# Altium footprint library TI Power Management Step-Down Regulator.PcbLib: 43 footprints (part 2 of 3)
Each footprint in its own frame and in the unit in brackets; x right, y up, seen from the top. Pads: shape width x height; smd on the part's side, far side on the other; paste and mask are expansions set on the pad; w line width, h text height; cw(c..) or ccw(c..) is an arc to the next point about the centre after c.
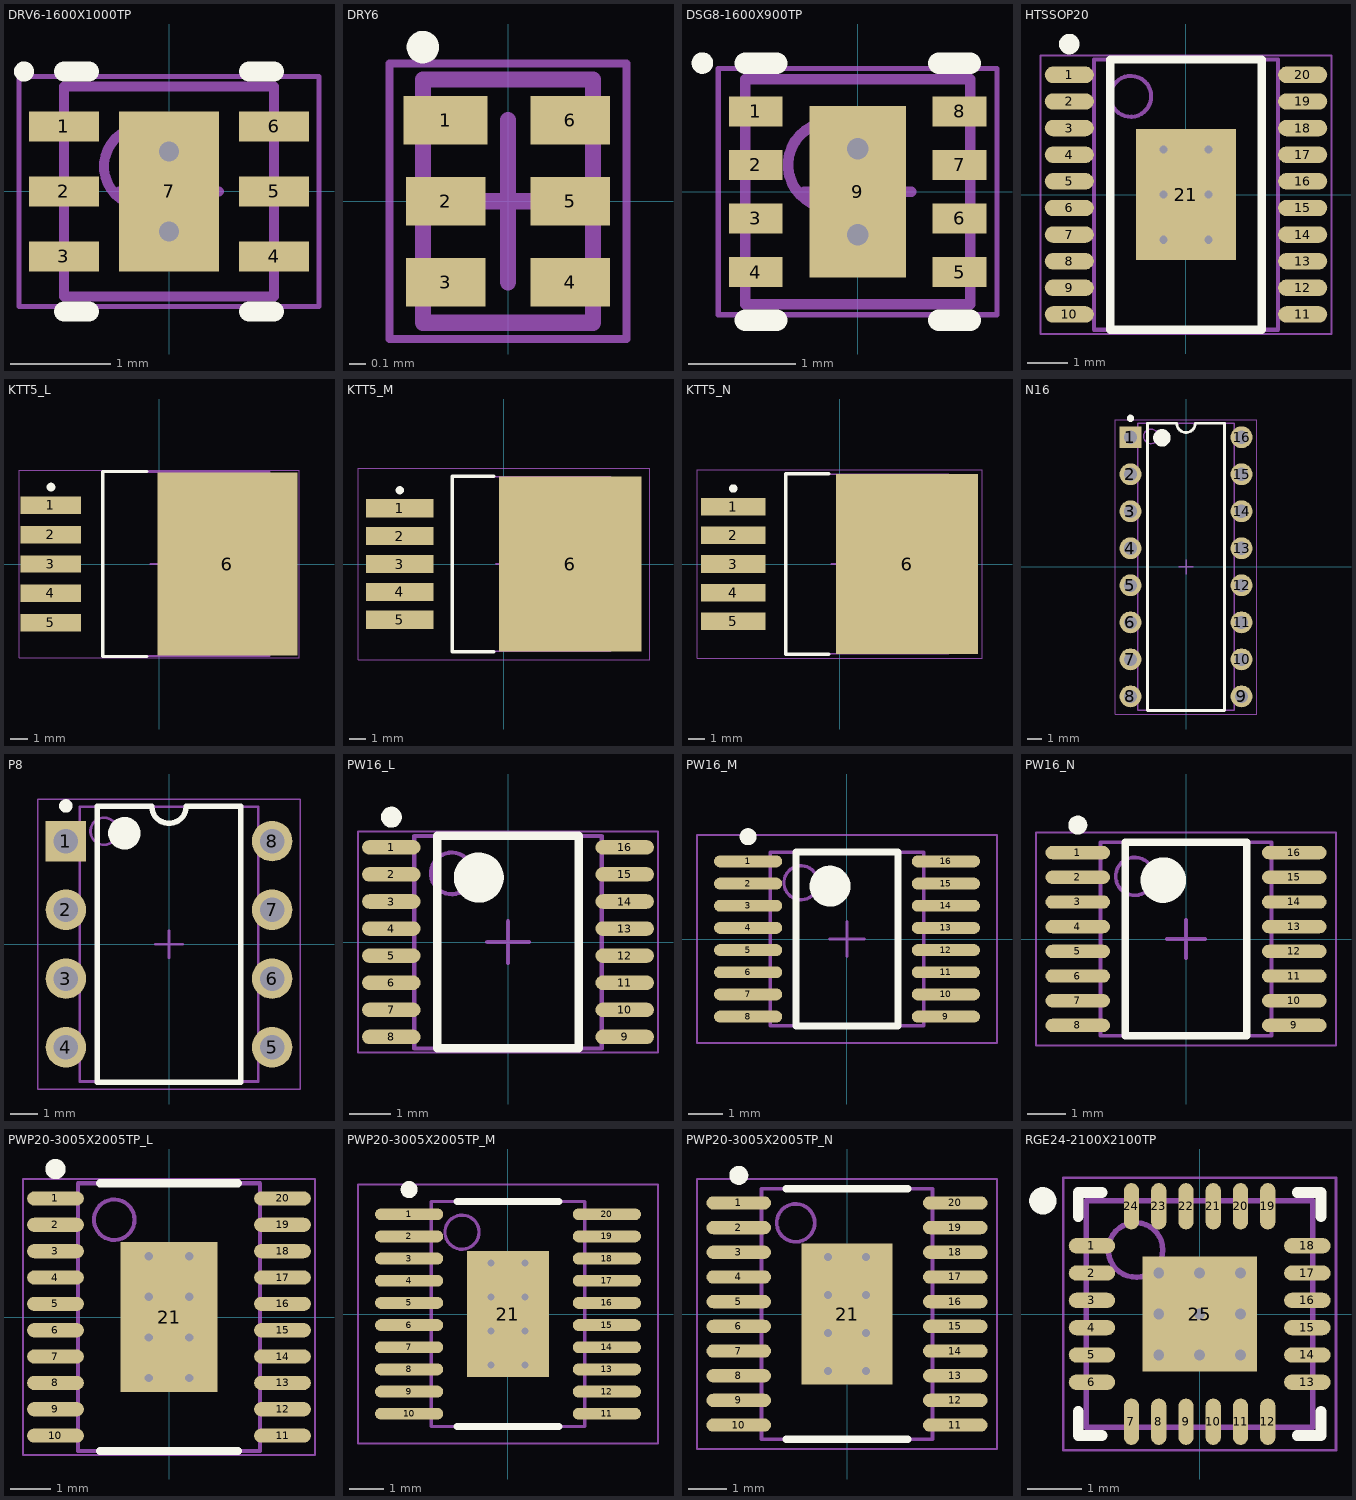
[diagram p1: the footprints below, top view; thin cyan lines are the x and y axes]

## DRV6-1600X1000TP [mm] "SON, 6-Leads, Body 2x2mm, Pitch 0.65mm, Thermal Pad 1.6x1mm, TI Recommended"
height 0.8
pads (7):
  rect 0.7x0.3 smd paste-0.025 mask+0.07: 1(-1.05,0.65) 2(-1.05,0) 3(-1.05,-0.65) 4(1.05,-0.65) 5(1.05,0) 6(1.05,0.65)
  rect 1x1.6 smd paste-0.5 mask+0.07: 7(0,0)
via 0,-0.4 diameter 0.5 hole 0.2
via 0,0.4 diameter 0.5 hole 0.2
Top Overlay:
  circle w0.1: c-1.45,1.2 r0.05
  lines w0.2: -1.05,-1.2 -0.8,-1.2 ; -1.05,1.2 -0.8,1.2 ; 0.8,-1.2 1.05,-1.2 ; 0.8,1.2 1.05,1.2
Top Paste:
  rectangle: -0.4,-0.7 0.4,0.7
Mechanical 13:
  circle w0.1: c-0.25,0.25 r0.4
  lines w0.1: -1.05,-1.05 1.05,-1.05 1.05,1.05 -1.05,1.05 -1.05,-1.05
Mechanical 15:
  lines w0.05: -1.5,-1.15 1.5,-1.15 1.5,1.15 -1.5,1.15 -1.5,-1.15
  lines w0.1: -0.5,0 0.5,0 ; 0,-0.5 0,0.5
3D body "SON6_2x2.step": height 0.75, standoff 0, extent -1.001,-1 1.001,1

## DRY6 [mm] "PSON, 6-Leads, Body 1x1.45mm, Pitch 0.5mm, TI Recommended"
height 0.6
pads (6):
  rect 0.52x0.3 smd paste+0 mask+0.05: 1(-0.385,0.5)
  rect 0.49x0.3 smd paste+0 mask+0.05: 2(-0.385,0) 3(-0.385,-0.5) 4(0.385,-0.5) 5(0.385,0) 6(0.385,0.5)
Top Overlay:
  circle w0.1: c-0.525,0.95 r0.05
Mechanical 13:
  lines w0.1: -0.525,-0.75 0.525,-0.75 0.525,0.75 -0.525,0.75 -0.525,-0.75
Mechanical 15:
  lines w0.05: -0.73,-0.85 0.73,-0.85 0.73,0.85 -0.73,0.85 -0.73,-0.85
  lines w0.1: -0.5,0 0.5,0 ; 0,-0.5 0,0.5
3D body "SON6_1.step": height 0.64, standoff -0.01, extent -0.566,-0.75 0.584,0.75

## DSG8-1600X900TP [mm] "SON, 8-Leads, Body 2x2mm, Pitch 0.5mm, Thermal Pad 1.6x0.9mm, TI Recommended"
height 0.8
pads (9):
  rect 0.5x0.28 smd paste-0.14 mask+0.07: 1(-0.95,0.75) 2(-0.95,0.25) 3(-0.95,-0.25) 4(-0.95,-0.75) 5(0.95,-0.75) 6(0.95,-0.25) 7(0.95,0.25) 8(0.95,0.75)
  rect 0.9x1.6 smd paste-0.45 mask+0.07: 9(0,0)
via 0,0.4 diameter 0.5 hole 0.2
via 0,-0.4 diameter 0.5 hole 0.2
Top Overlay:
  circle w0.1: c-1.45,1.2 r0.05
  lines w0.2: -1.05,-1.2 -0.755,-1.2 ; -1.05,1.2 -0.755,1.2 ; 0.755,-1.2 1.05,-1.2 ; 0.755,1.2 1.05,1.2
Top Paste:
  rectangle: -1.2,0.125 -0.7,0.375
  rectangle: -0.35,-0.65 0.35,0.65
  rectangle: -1.2,0.625 -0.7,0.875
  rectangle: -1.2,-0.375 -0.7,-0.125
  rectangle: -1.2,-0.875 -0.7,-0.625
  rectangle: 0.7,-0.875 1.2,-0.625
  rectangle: 0.7,-0.375 1.2,-0.125
  rectangle: 0.7,0.125 1.2,0.375
  rectangle: 0.7,0.625 1.2,0.875
Mechanical 13:
  circle w0.1: c-0.25,0.25 r0.4
  lines w0.1: -1.05,-1.05 1.05,-1.05 1.05,1.05 -1.05,1.05 -1.05,-1.05
Mechanical 15:
  lines w0.05: -1.3,-1.15 1.3,-1.15 1.3,1.15 -1.3,1.15 -1.3,-1.15
  lines w0.1: -0.5,0 0.5,0 ; 0,-0.5 0,0.5
3D body "SON8-2x2mm-1.step": height 0.81, standoff 0.01, extent -1,-1 1,1

## HTSSOP20 [mm] "TSOP, 20-Leads, Body 6.50x4.40mm, Pitch 0.65mm, Thermal Pad 3.20x2.45mm, IPC High Density"
height 1.2
pads (21):
  oval 1.2x0.4 smd: 1(-2.85,2.925) 2(-2.85,2.275) 3(-2.85,1.625) 4(-2.85,0.975) 5(-2.85,0.325) 6(-2.85,-0.325) 7(-2.85,-0.975) 8(-2.85,-1.625) 9(-2.85,-2.275) 10(-2.85,-2.925) 11(2.85,-2.925) 12(2.85,-2.275) 13(2.85,-1.625) 14(2.85,-0.975) 15(2.85,-0.325) 16(2.85,0.325) 17(2.85,0.975) 18(2.85,1.625) 19(2.85,2.275) 20(2.85,2.925)
  rect 2.45x3.2 smd: 21(0,0)
via 0.55,-1.1 diameter 0.5 hole 0.2
via -0.55,-1.1 diameter 0.5 hole 0.2
via 0.55,0 diameter 0.5 hole 0.2
via -0.55,0 diameter 0.5 hole 0.2
via 0.55,1.1 diameter 0.5 hole 0.2
via -0.55,1.1 diameter 0.5 hole 0.2
Top Overlay:
  circle w0.25: c-2.85,3.675 r0.125
  lines w0.2: -1.85,-3.3 1.85,-3.3 1.85,3.3 -1.85,3.3 -1.85,-3.3
Mechanical 13:
  circle w0.1: c-1.35,2.4 r0.5
  lines w0.1: -2.25,-3.3 2.25,-3.3 2.25,3.3 -2.25,3.3 -2.25,-3.3
Mechanical 15:
  lines w0.05: -3.55,-3.4 3.55,-3.4 3.55,3.4 -3.55,3.4 -3.55,-3.4
  lines w0.1: -0.5,0 0.5,0 ; 0,-0.5 0,0.5
3D body "HTSSOP20.step": height 1.2, standoff 0, extent -3.2,-3.3 3.2,3.3

## KTT5_L [mm] "D2-PAK, 6-Leads, Body 8.9x10.2mm, Pitch 1.7mm, Lead Span 15.2mm, IPC High Density"
height 4.83
pads (6):
  rect 3.5x1 smd: 1(-6.25,3.4) 2(-6.25,1.7) 3(-6.25,0) 4(-6.25,-1.7) 5(-6.25,-3.4)
  rect 8.1x10.6 smd: 6(3.95,0)
Top Overlay:
  circle w0.25: c-6.25,4.45 r0.125
  lines w0.2: -0.7,-5.35 -3.25,-5.35 -3.25,5.35 -0.7,5.35
Mechanical 13:
  lines w0.1: -3.25,-5.325 6.4,-5.325 6.4,5.325 -3.25,5.325 -3.25,-5.325
Mechanical 15:
  lines w0.05: -8.1,-5.425 8.1,-5.425 8.1,5.425 -8.1,5.425 -8.1,-5.425
  lines w0.1: -0.5,0 0.5,0 ; 0,-0.5 0,0.5
3D body "D2PACK-5-TO263-5.step": height 4.41, standoff -0.14, extent -7.546,-5.15 7.682,5.15

## KTT5_M [mm] "D2-PAK, 6-Leads, Body 8.9x10.2mm, Pitch 1.7mm, Lead Span 15.2mm, IPC Low Density"
height 4.83
pads (6):
  rect 4.1x1.1 smd: 1(-6.35,3.4) 2(-6.35,1.7) 3(-6.35,0) 4(-6.35,-1.7) 5(-6.35,-3.4)
  rect 8.7x10.7 smd: 6(4.05,0)
Top Overlay:
  circle w0.25: c-6.35,4.5 r0.125
  lines w0.2: -0.6,-5.35 -3.15,-5.35 -3.15,5.35 -0.6,5.35
Mechanical 13:
  lines w0.1: -3.15,-5.325 6.5,-5.325 6.5,5.325 -3.15,5.325 -3.15,-5.325
Mechanical 15:
  lines w0.05: -8.9,-5.85 8.9,-5.85 8.9,5.85 -8.9,5.85 -8.9,-5.85
  lines w0.1: -0.5,0 0.5,0 ; 0,-0.5 0,0.5
3D body "D2PACK-5-TO263-5.step": height 4.41, standoff -0.14, extent -7.8,-5.15 7.428,5.15

## KTT5_N [mm] "D2-PAK, 6-Leads, Body 8.9x10.2mm, Pitch 1.7mm, Lead Span 15.2mm, IPC Medium Density"
height 4.83
pads (6):
  rect 3.8x1.05 smd: 1(-6.3,3.4) 2(-6.3,1.7) 3(-6.3,0) 4(-6.3,-1.7) 5(-6.3,-3.4)
  rect 8.4x10.65 smd: 6(4,0)
Top Overlay:
  circle w0.25: c-6.3,4.475 r0.125
  lines w0.2: -0.65,-5.35 -3.2,-5.35 -3.2,5.35 -0.65,5.35
Mechanical 13:
  lines w0.1: -3.2,-5.325 -3.2,5.325 6.45,5.325 6.45,-5.325 -3.2,-5.325
Mechanical 15:
  lines w0.05: -8.45,-5.575 -8.45,5.575 8.45,5.575 8.45,-5.575 -8.45,-5.575
  lines w0.1: -0.5,0 0.5,0 ; 0,-0.5 0,0.5
3D body "D2PACK-5-TO263-5.step": height 4.41, standoff -0.14, extent -7.8,-5.15 7.428,5.15

## N16 [mm] "DIP, 16-Leads, Row Spacing 7.62mm, Pitch 2.54mm, Body 19.3x6.4mm"
height 5.08
pads (16):
  rect 1.5x1.5 hole 0.9: 1(-3.81,8.89)
  round 1.5 hole 0.9: 2(-3.81,6.35) 3(-3.81,3.81) 4(-3.81,1.27) 5(-3.81,-1.27) 6(-3.81,-3.81) 7(-3.81,-6.35) 8(-3.81,-8.89) 9(3.81,-8.89) 10(3.81,-6.35) 11(3.81,-3.81) 12(3.81,-1.27) 13(3.81,1.27) 14(3.81,3.81) 15(3.81,6.35) 16(3.81,8.89)
Top Overlay:
  circle w0.6: c-1.65,8.85 r0.3
  circle w0.25: c-3.81,10.19 r0.125
  lines w0.2: -2.65,-9.85 2.65,-9.85 2.65,9.85 0.635,9.85 cw(c0,9.85) -0.635,9.85 -2.65,9.85 -2.65,-9.85
Mechanical 13:
  circle w0.1: c-2.4,8.95 r0.5
  lines w0.1: -3.3,-9.85 3.3,-9.85 3.3,9.85 -3.3,9.85 -3.3,-9.85
Mechanical 15:
  lines w0.05: -4.85,-10.1 4.85,-10.1 4.85,10.1 -4.85,10.1 -4.85,-10.1
  lines w0.1: -0.5,0 0.5,0 ; 0,-0.5 0,0.5
3D body "DIP16.step": height 5.1, standoff -3.3, extent -3.935,-9.746 3.935,10.254

## P8 [mm] "DIP, 8-Leads, Row Spacing 7.62mm, Pitch 2.54mm, Body 9.6x6.4mm"
height 5.08
pads (8):
  rect 1.5x1.5 hole 0.9: 1(-3.81,3.81)
  round 1.5 hole 0.9: 2(-3.81,1.27) 3(-3.81,-1.27) 4(-3.81,-3.81) 5(3.81,-3.81) 6(3.81,-1.27) 7(3.81,1.27) 8(3.81,3.81)
Top Overlay:
  circle w0.25: c-3.81,5.11 r0.125
  circle w0.6: c-1.65,4.1 r0.3
  lines w0.2: -2.65,-5.1 -2.65,5.1 -0.635,5.1 ccw(c0,5.1) 0.635,5.1 2.65,5.1 2.65,-5.1 -2.65,-5.1
Mechanical 13:
  circle w0.1: c-2.4,4.175 r0.5
  lines w0.1: -3.3,-5.075 -3.3,5.075 3.3,5.075 3.3,-5.075 -3.3,-5.075
Mechanical 15:
  lines w0.05: -4.85,-5.35 -4.85,5.35 4.85,5.35 4.85,-5.35 -4.85,-5.35
  lines w0.1: -0.5,0 0.5,0 ; 0,-0.5 0,0.5
3D body "DIP8.step": height 4.8, standoff -3.3, extent -3.935,-4.9 3.935,4.9

## PW16_L [mm] "TSOP, 16-Leads, Body 5x4.4mm, Pitch 0.65mm, IPC High Density"
height 1.2
pads (16):
  oval 1.4x0.35 smd: 1(-2.8,2.275) 2(-2.8,1.625) 3(-2.8,0.975) 4(-2.8,0.325) 5(-2.8,-0.325) 6(-2.8,-0.975) 7(-2.8,-1.625) 8(-2.8,-2.275) 9(2.8,-2.275) 10(2.8,-1.625) 11(2.8,-0.975) 12(2.8,-0.325) 13(2.8,0.325) 14(2.8,0.975) 15(2.8,1.625) 16(2.8,2.275)
Top Overlay:
  circle w0.25: c-2.8,3 r0.125
  circle w0.6: c-0.7,1.55 r0.3
  lines w0.2: -1.7,-2.55 -1.7,2.55 1.7,2.55 1.7,-2.55 -1.7,-2.55
Mechanical 13:
  circle w0.1: c-1.35,1.65 r0.5
  lines w0.1: -2.25,-2.55 -2.25,2.55 2.25,2.55 2.25,-2.55 -2.25,-2.55
Mechanical 15:
  lines w0.05: -3.6,-2.65 -3.6,2.65 3.6,2.65 3.6,-2.65 -3.6,-2.65
  lines w0.1: -0.5,0 0.5,0 ; 0,-0.5 0,0.5
3D body "TSSOP16-1.step": height 1.1, standoff 0, extent -3.2,-2.5 3.2,2.5

## PW16_M [mm] "TSOP, 16-Leads, Body 5x4.4mm, Pitch 0.65mm, IPC Low Density"
height 1.2
pads (16):
  oval 2x0.35 smd: 1(-2.9,2.275) 2(-2.9,1.625) 3(-2.9,0.975) 4(-2.9,0.325) 5(-2.9,-0.325) 6(-2.9,-0.975) 7(-2.9,-1.625) 8(-2.9,-2.275) 9(2.9,-2.275) 10(2.9,-1.625) 11(2.9,-0.975) 12(2.9,-0.325) 13(2.9,0.325) 14(2.9,0.975) 15(2.9,1.625) 16(2.9,2.275)
Top Overlay:
  circle w0.25: c-2.9,3 r0.125
  circle w0.6: c-0.5,1.55 r0.3
  lines w0.2: -1.5,-2.55 -1.5,2.55 1.5,2.55 1.5,-2.55 -1.5,-2.55
Mechanical 13:
  circle w0.1: c-1.35,1.65 r0.5
  lines w0.1: -2.25,-2.55 -2.25,2.55 2.25,2.55 2.25,-2.55 -2.25,-2.55
Mechanical 15:
  lines w0.05: -4.4,-3.05 -4.4,3.05 4.4,3.05 4.4,-3.05 -4.4,-3.05
  lines w0.1: -0.5,0 0.5,0 ; 0,-0.5 0,0.5
3D body "TSSOP16-1.step": height 1.1, standoff 0, extent -3.2,-2.5 3.2,2.5

## PW16_N [mm] "TSOP, 16-Leads, Body 5x4.4mm, Pitch 0.65mm, IPC Medium Density"
height 1.2
pads (16):
  oval 1.7x0.35 smd: 1(-2.85,2.275) 2(-2.85,1.625) 3(-2.85,0.975) 4(-2.85,0.325) 5(-2.85,-0.325) 6(-2.85,-0.975) 7(-2.85,-1.625) 8(-2.85,-2.275) 9(2.85,-2.275) 10(2.85,-1.625) 11(2.85,-0.975) 12(2.85,-0.325) 13(2.85,0.325) 14(2.85,0.975) 15(2.85,1.625) 16(2.85,2.275)
Top Overlay:
  circle w0.25: c-2.85,3 r0.125
  circle w0.6: c-0.6,1.55 r0.3
  lines w0.2: -1.6,-2.55 -1.6,2.55 1.6,2.55 1.6,-2.55 -1.6,-2.55
Mechanical 13:
  circle w0.1: c-1.35,1.65 r0.5
  lines w0.1: -2.25,-2.55 -2.25,2.55 2.25,2.55 2.25,-2.55 -2.25,-2.55
Mechanical 15:
  lines w0.05: -3.95,-2.8 -3.95,2.8 3.95,2.8 3.95,-2.8 -3.95,-2.8
  lines w0.1: -0.5,0 0.5,0 ; 0,-0.5 0,0.5
3D body "TSSOP16-1.step": height 1.1, standoff 0, extent -3.2,-2.5 3.2,2.5

## PWP20-3005X2005TP_L [mm] "TSOP, 20-Leads, Body 6.5x4.4mm, Pitch 0.65mm, Thermal Pad 3.7x2.4 mm, IPC High Density"
height 1.2
pads (21):
  oval 1.4x0.35 smd: 1(-2.8,2.925) 2(-2.8,2.275) 3(-2.8,1.625) 4(-2.8,0.975) 5(-2.8,0.325) 6(-2.8,-0.325) 7(-2.8,-0.975) 8(-2.8,-1.625) 9(-2.8,-2.275) 10(-2.8,-2.925) 11(2.8,-2.925) 12(2.8,-2.275) 13(2.8,-1.625) 14(2.8,-0.975) 15(2.8,-0.325) 16(2.8,0.325) 17(2.8,0.975) 18(2.8,1.625) 19(2.8,2.275) 20(2.8,2.925)
  rect 2.4x3.7 smd: 21(0,0)
via -0.5,1.5 diameter 0.5 hole 0.2
via -0.5,0.5 diameter 0.5 hole 0.2
via -0.5,-0.5 diameter 0.5 hole 0.2
via -0.5,-1.5 diameter 0.5 hole 0.2
via 0.5,-1.5 diameter 0.5 hole 0.2
via 0.5,-0.5 diameter 0.5 hole 0.2
via 0.5,0.5 diameter 0.5 hole 0.2
via 0.5,1.5 diameter 0.5 hole 0.2
Top Overlay:
  circle w0.25: c-2.8,3.65 r0.125
  lines w0.2: -1.7,-3.3 1.7,-3.3 ; -1.7,3.3 1.7,3.3
Mechanical 13:
  circle w0.1: c-1.35,2.4 r0.5
  lines w0.1: -2.25,-3.3 2.25,-3.3 2.25,3.3 -2.25,3.3 -2.25,-3.3
Mechanical 15:
  lines w0.05: -3.6,-3.4 3.6,-3.4 3.6,3.4 -3.6,3.4 -3.6,-3.4
  lines w0.1: -0.5,0 0.5,0 ; 0,-0.5 0,0.5
3D body "TSSOP20.step": height 1.09, standoff 0, extent -3.14,-3.35 3.14,3.15

## PWP20-3005X2005TP_M [mm] "TSOP, 20-Leads, Body 6.5x4.4mm, Pitch 0.65mm, Thermal Pad 3.7x2.4 mm, IPC Low Density"
height 1.2
pads (21):
  oval 2x0.35 smd: 1(-2.9,2.925) 2(-2.9,2.275) 3(-2.9,1.625) 4(-2.9,0.975) 5(-2.9,0.325) 6(-2.9,-0.325) 7(-2.9,-0.975) 8(-2.9,-1.625) 9(-2.9,-2.275) 10(-2.9,-2.925) 11(2.9,-2.925) 12(2.9,-2.275) 13(2.9,-1.625) 14(2.9,-0.975) 15(2.9,-0.325) 16(2.9,0.325) 17(2.9,0.975) 18(2.9,1.625) 19(2.9,2.275) 20(2.9,2.925)
  rect 2.4x3.7 smd: 21(0,0)
via -0.5,1.5 diameter 0.5 hole 0.2
via -0.5,0.5 diameter 0.5 hole 0.2
via -0.5,-0.5 diameter 0.5 hole 0.2
via -0.5,-1.5 diameter 0.5 hole 0.2
via 0.5,-1.5 diameter 0.5 hole 0.2
via 0.5,-0.5 diameter 0.5 hole 0.2
via 0.5,0.5 diameter 0.5 hole 0.2
via 0.5,1.5 diameter 0.5 hole 0.2
Top Overlay:
  circle w0.25: c-2.9,3.65 r0.125
  lines w0.2: -1.5,-3.3 1.5,-3.3 ; -1.5,3.3 1.5,3.3
Mechanical 13:
  circle w0.1: c-1.35,2.4 r0.5
  lines w0.1: -2.25,-3.3 2.25,-3.3 2.25,3.3 -2.25,3.3 -2.25,-3.3
Mechanical 15:
  lines w0.05: -4.4,-3.8 4.4,-3.8 4.4,3.8 -4.4,3.8 -4.4,-3.8
  lines w0.1: -0.5,0 0.5,0 ; 0,-0.5 0,0.5
3D body "TSSOP20.step": height 1.09, standoff 0, extent -3.137,-3.354 3.143,3.146

## PWP20-3005X2005TP_N [mm] "TSOP, 20-Leads, Body 6.5x4.4mm, Pitch 0.65mm, Thermal Pad 3.7x2.4 mm, IPC Medium Density"
height 1.2
pads (21):
  oval 1.7x0.35 smd: 1(-2.85,2.925) 2(-2.85,2.275) 3(-2.85,1.625) 4(-2.85,0.975) 5(-2.85,0.325) 6(-2.85,-0.325) 7(-2.85,-0.975) 8(-2.85,-1.625) 9(-2.85,-2.275) 10(-2.85,-2.925) 11(2.85,-2.925) 12(2.85,-2.275) 13(2.85,-1.625) 14(2.85,-0.975) 15(2.85,-0.325) 16(2.85,0.325) 17(2.85,0.975) 18(2.85,1.625) 19(2.85,2.275) 20(2.85,2.925)
  rect 2.4x3.7 smd: 21(0,0)
via -0.5,1.5 diameter 0.5 hole 0.2
via -0.5,0.5 diameter 0.5 hole 0.2
via -0.5,-0.5 diameter 0.5 hole 0.2
via -0.5,-1.5 diameter 0.5 hole 0.2
via 0.5,-1.5 diameter 0.5 hole 0.2
via 0.5,-0.5 diameter 0.5 hole 0.2
via 0.5,0.5 diameter 0.5 hole 0.2
via 0.5,1.5 diameter 0.5 hole 0.2
Top Overlay:
  circle w0.25: c-2.85,3.65 r0.125
  lines w0.2: -1.6,-3.3 1.6,-3.3 ; -1.6,3.3 1.6,3.3
Mechanical 13:
  circle w0.1: c-1.35,2.4 r0.5
  lines w0.1: -2.25,-3.3 -2.25,3.3 2.25,3.3 2.25,-3.3 -2.25,-3.3
Mechanical 15:
  lines w0.05: -3.95,-3.55 -3.95,3.55 3.95,3.55 3.95,-3.55 -3.95,-3.55
  lines w0.1: -0.5,0 0.5,0 ; 0,-0.5 0,0.5
3D body "TSSOP20.step": height 1.09, standoff 0, extent -3.162,-3.354 3.118,3.146

## RGE24-2100X2100TP [mm] "QFN, 24-Leads, Body 4x4mm, Pitch 0.5mm, Thermal Pad 2.1x2.1mm, TI Recommended"
height 1
pads (25):
  oval 0.85x0.28 smd paste-0.025 mask+0.07: 1(-1.975,1.25) 2(-1.975,0.75) 3(-1.975,0.25) 4(-1.975,-0.25) 5(-1.975,-0.75) 6(-1.975,-1.25) 13(1.975,-1.25) 14(1.975,-0.75) 15(1.975,-0.25) 16(1.975,0.25) 17(1.975,0.75) 18(1.975,1.25)
  oval 0.28x0.85 smd paste-0.025 mask+0.07: 7(-1.25,-1.975) 8(-0.75,-1.975) 9(-0.25,-1.975) 10(0.25,-1.975) 11(0.75,-1.975) 12(1.25,-1.975) 19(1.25,1.975) 20(0.75,1.975) 21(0.25,1.975) 22(-0.25,1.975) 23(-0.75,1.975) 24(-1.25,1.975)
  rect 2.1x2.1 smd paste-1.05 mask+0.07: 25(0,0)
via 0.75,-0.75 diameter 0.5 hole 0.2
via 0,-0.75 diameter 0.5 hole 0.2
via -0.75,-0.75 diameter 0.5 hole 0.2
via 0.75,0 diameter 0.5 hole 0.2
via 0,0 diameter 0.5 hole 0.2
via -0.75,0 diameter 0.5 hole 0.2
via 0.75,0.75 diameter 0.5 hole 0.2
via 0,0.75 diameter 0.5 hole 0.2
via -0.75,0.75 diameter 0.5 hole 0.2
Top Overlay:
  circle w0.25: c-2.875,2.075 r0.125
  lines w0.2: -2.225,-1.79 -2.225,-2.225 -1.79,-2.225 ; -2.225,1.79 -2.225,2.225 -1.79,2.225 ; 1.79,-2.225 2.225,-2.225 2.225,-1.79 ; 1.79,2.225 2.225,2.225 2.225,1.79
Top Paste:
  rectangle: 0.15,0.15 0.975,0.975
  region: -0.15,0.975 -0.975,0.975 -0.975,0.15 -0.15,0.15
  region: -0.15,-0.15 -0.975,-0.15 -0.975,-0.975 -0.15,-0.975
  rectangle: 0.15,-0.975 0.975,-0.15
Mechanical 13:
  circle w0.1: c-1.175,1.175 r0.5
  lines w0.1: -2.075,-2.075 2.075,-2.075 2.075,2.075 -2.075,2.075 -2.075,-2.075
Mechanical 15:
  lines w0.05: -2.5,-2.5 2.5,-2.5 2.5,2.5 -2.5,2.5 -2.5,-2.5
  lines w0.1: -0.5,0 0.5,0 ; 0,-0.5 0,0.5
3D body "QFN24-4x4.step": height 0.9, standoff 0, extent -2.002,-2.002 2.002,2.002